# Altium integrated library Xilinx XC1700E.IntLib: 60 symbols (part 1 of 3)
Pins are listed as number, name and electrical type; pins without a type are passive.

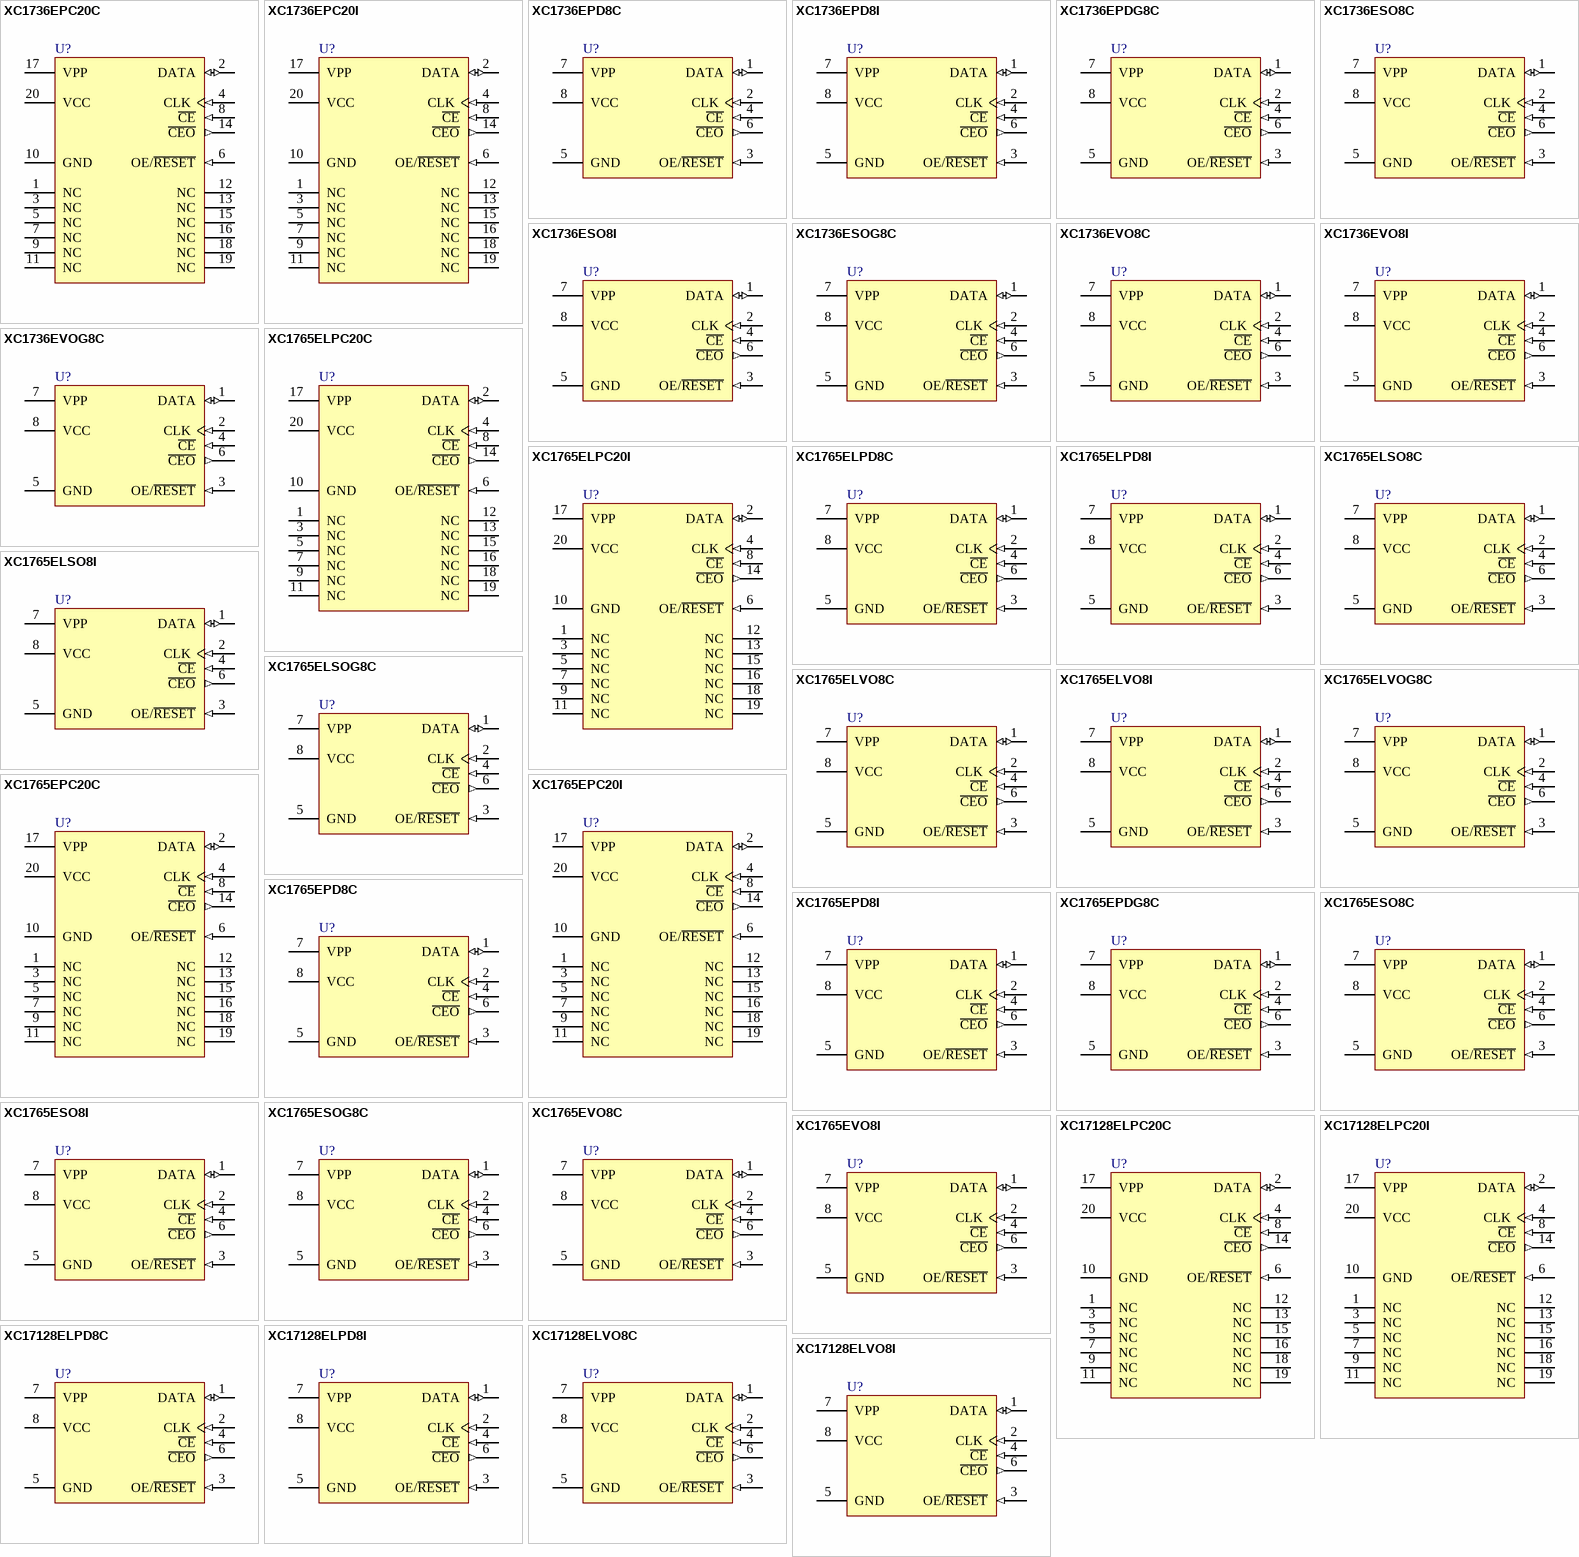
[diagram p0: symbols XC1736EPC20C to XC17128ELVO8I]

## XC1736EPC20C
designator U?
XC1700E Series, One-Time Programmable Configuration 5V PROM, 20-Pin PLCC, 36-Kilobit Density, Commercial Grade; Published: 17-Dec-2003; LatestRevisionDate: 01-Mar-2010; LatestRevisionNote: Added Product Discontinuance Notice Link.; DatasheetVersion: ver3.5, Jun-2008; PackageVersion: ver1.2, Jun-2004; PackageReference: PC20; Publisher: Altium Limited; PackageDescription: 20-Pin Plastic Leaded Chip Carrier (PC20); Supplier 1: Digi-Key; Supplier Part Number 1: XC1736EPC20C-ND; Code_JEDEC: MS-047; Code_IPC: PLCC-20; ComponentLink1Description: XC1700E/EL/L Series Datasheet; ComponentLink1URL: http://www.xilinx.com/support/documentation/data_sheets/ds027.pdf; ComponentLink2Description: Discontinuation Notice; ComponentLink2URL: http://www.xilinx.com/support/documentation/customer_notices/xcn09002.pdf; ComponentLink3Description: PC20 Package Drawing; ComponentLink3URL: http://www.xilinx.com/support/documentation/package_specs/pc20.pdf; ComponentLink4Description: Configuration PROM Documents; ComponentLink4URL: http://www.xilinx.com/support/documentation/configuration_proms.htm; ComponentLink5Description: Xilinx.com Home; ComponentLink5URL: http://www.xilinx.com
footprint PC20_N (Leaded Chip Carrier, 20-Leads, Body 9x9mm, Pitch 1.27mm, IPC Medium Density)
footprint PC20_L (Leaded Chip Carrier, 20-Leads, Body 9x9mm, Pitch 1.27mm, IPC High Density)
footprint PC20_M (Leaded Chip Carrier, 20-Leads, Body 9x9mm, Pitch 1.27mm, IPC Low Density)
pins: 1 NC "No Connection.", 2 DATA (io) "Data Output.", 3 NC "No Connection.", 4 CLK (in) "Clock input for internal address counter.", 5 NC "No Connection.", 6 OE/~{RESET} (in) "Output Enable/Reset.", 7 NC "No Connection.", 8 ~{CE} (in) "Chip Enable Input.", 9 NC "No Connection.", 10 GND (power) "Ground.", 11 NC "No Connection.", 12 NC "No Connection.", 13 NC "No Connection.", 14 ~{CEO} (out) "Chip Enable Output, connects to the CE input of the next PROM in the chain.", 15 NC "No Connection.", 16 NC "No Connection.", 17 VPP (power) "Programming Voltage.  Do not leave Vpp floating!", 18 NC "No Connection.", 19 NC "No Connection.", 20 VCC (power) "Positive Supply."

## XC1736EPC20I
designator U?
XC1700E Series, One-Time Programmable Configuration 5V PROM, 20-Pin PLCC, 36-Kilobit Density, Industrial Grade; Published: 17-Dec-2003; LatestRevisionDate: 01-Mar-2010; LatestRevisionNote: Added Product Discontinuance Notice Link.; DatasheetVersion: ver3.5, Jun-2008; PackageVersion: ver1.2, Jun-2004; PackageReference: PC20; Publisher: Altium Limited; PackageDescription: 20-Pin Plastic Leaded Chip Carrier (PC20); Supplier 1: Digi-Key; Supplier Part Number 1: XC1736EPC20I-ND; Code_JEDEC: MS-047; Code_IPC: PLCC-20; ComponentLink1Description: XC1700E/EL/L Series Datasheet; ComponentLink1URL: http://www.xilinx.com/support/documentation/data_sheets/ds027.pdf; ComponentLink2Description: Discontinuation Notice; ComponentLink2URL: http://www.xilinx.com/support/documentation/customer_notices/xcn09002.pdf; ComponentLink3Description: PC20 Package Drawing; ComponentLink3URL: http://www.xilinx.com/support/documentation/package_specs/pc20.pdf; ComponentLink4Description: Configuration PROM Documents; ComponentLink4URL: http://www.xilinx.com/support/documentation/configuration_proms.htm; ComponentLink5Description: Xilinx.com Home; ComponentLink5URL: http://www.xilinx.com
footprint PC20_N (Leaded Chip Carrier, 20-Leads, Body 9x9mm, Pitch 1.27mm, IPC Medium Density)
footprint PC20_L (Leaded Chip Carrier, 20-Leads, Body 9x9mm, Pitch 1.27mm, IPC High Density)
footprint PC20_M (Leaded Chip Carrier, 20-Leads, Body 9x9mm, Pitch 1.27mm, IPC Low Density)
pins: 1 NC "No Connection.", 2 DATA (io) "Data Output.", 3 NC "No Connection.", 4 CLK (in) "Clock input for internal address counter.", 5 NC "No Connection.", 6 OE/~{RESET} (in) "Output Enable/Reset.", 7 NC "No Connection.", 8 ~{CE} (in) "Chip Enable Input.", 9 NC "No Connection.", 10 GND (power) "Ground.", 11 NC "No Connection.", 12 NC "No Connection.", 13 NC "No Connection.", 14 ~{CEO} (out) "Chip Enable Output, connects to the CE input of the next PROM in the chain.", 15 NC "No Connection.", 16 NC "No Connection.", 17 VPP (power) "Programming Voltage.  Do not leave Vpp floating!", 18 NC "No Connection.", 19 NC "No Connection.", 20 VCC (power) "Positive Supply."

## XC1736EPD8C
designator U?
XC1700E Series, One-Time Programmable Configuration 5V PROM, 8-Pin PDIP, 36-Kilobit Density, Commercial Grade; Published: 17-Dec-2003; LatestRevisionDate: 01-Mar-2010; LatestRevisionNote: Added Product Discontinuance Notice Link.; DatasheetVersion: ver3.5, Jun-2008; PackageVersion: rev1.1, Apr-2001; PackageReference: PD8; Publisher: Altium Limited; PackageDescription: 8-Pin Plastic DIP (PD8); Supplier 1: Digi-Key; Supplier Part Number 1: 122-1187-ND; Supplier 2: Farnell; Supplier Part Number 2: 3848905; Code_JEDEC: MS-001-BA; ComponentLink1Description: XC1700E/EL/L Series Datasheet; ComponentLink1URL: http://www.xilinx.com/support/documentation/data_sheets/ds027.pdf; ComponentLink2Description: Discontinuation Notice; ComponentLink2URL: http://www.xilinx.com/support/documentation/customer_notices/xcn09002.pdf; ComponentLink3Description: PD8 Package Drawing; ComponentLink3URL: http://www.xilinx.com/support/documentation/package_specs/pd08.pdf; ComponentLink4Description: Configuration PROM Documents; ComponentLink4URL: http://www.xilinx.com/support/documentation/configuration_proms.htm; ComponentLink5Description: Xilinx.com Home; ComponentLink5URL: http://www.xilinx.com
footprint PD8 (DIP, 8-Leads, Row Spacing 7.62mm, Pitch 2.54mm, Body 9.36x6.5mm)
pins: 1 DATA (io) "Data Output.", 2 CLK (in) "Clock input for internal address counter.", 3 OE/~{RESET} (in) "Output Enable/Reset.", 4 ~{CE} (in) "Chip Enable Input.", 5 GND (power) "Ground.", 6 ~{CEO} (out) "Chip Enable Output, connects to the CE input of the next PROM in the chain.", 7 VPP (power) "Programming Voltage.  Do not leave Vpp floating!", 8 VCC (power) "Positive Supply."

## XC1736EPD8I
designator U?
XC1700E Series, One-Time Programmable Configuration 5V PROM, 8-Pin PDIP, 36-Kilobit Density, Industrial Grade; Published: 17-Dec-2003; LatestRevisionDate: 01-Mar-2010; LatestRevisionNote: Added Product Discontinuance Notice Link.; DatasheetVersion: ver3.5, Jun-2008; PackageVersion: rev1.1, Apr-2001; PackageReference: PD8; Publisher: Altium Limited; PackageDescription: 8-Pin Plastic DIP (PD8); Supplier 1: Digi-Key; Supplier Part Number 1: XC1736EPD8I-ND; Code_JEDEC: MS-001-BA; ComponentLink1Description: XC1700E/EL/L Series Datasheet; ComponentLink1URL: http://www.xilinx.com/support/documentation/data_sheets/ds027.pdf; ComponentLink2Description: Discontinuation Notice; ComponentLink2URL: http://www.xilinx.com/support/documentation/customer_notices/xcn09002.pdf; ComponentLink3Description: PD8 Package Drawing; ComponentLink3URL: http://www.xilinx.com/support/documentation/package_specs/pd08.pdf; ComponentLink4Description: Configuration PROM Documents; ComponentLink4URL: http://www.xilinx.com/support/documentation/configuration_proms.htm; ComponentLink5Description: Xilinx.com Home; ComponentLink5URL: http://www.xilinx.com
footprint PD8 (DIP, 8-Leads, Row Spacing 7.62mm, Pitch 2.54mm, Body 9.36x6.5mm)
pins: 1 DATA (io) "Data Output.", 2 CLK (in) "Clock input for internal address counter.", 3 OE/~{RESET} (in) "Output Enable/Reset.", 4 ~{CE} (in) "Chip Enable Input.", 5 GND (power) "Ground.", 6 ~{CEO} (out) "Chip Enable Output, connects to the CE input of the next PROM in the chain.", 7 VPP (power) "Programming Voltage.  Do not leave Vpp floating!", 8 VCC (power) "Positive Supply."

## XC1736EPDG8C
designator U?
XC1700E Series, One-Time Programmable Configuration 5V PROM, 8-Pin PDIP, 36-Kilobit Density, Commercial Grade, Pb-Free; Published: 17-Nov-2009; LatestRevisionDate: 01-Mar-2010; LatestRevisionNote: Added Product Discontinuance Notice Link.; DatasheetVersion: ver3.5, Jun-2008; PackageVersion: rev1.1, Apr-2001; PackageReference: PDG8; Publisher: Altium Limited; PackageDescription: 8-Pin Plastic DIP (PDG8), Pb-Free; Supplier 1: Digi-Key; Supplier Part Number 1: 122-1509-ND; Supplier 2: Farnell; Supplier Part Number 2: 1193220; Supplier 3: Newark; Supplier Part Number 3: 98K3366; Code_JEDEC: MS-001-BA; ComponentLink1Description: XC1700E/EL/L Series Datasheet; ComponentLink1URL: http://www.xilinx.com/support/documentation/data_sheets/ds027.pdf; ComponentLink2Description: Discontinuation Notice; ComponentLink2URL: http://www.xilinx.com/support/documentation/customer_notices/xcn09002.pdf; ComponentLink3Description: PDG8 Package Drawing; ComponentLink3URL: http://www.xilinx.com/support/documentation/package_specs/pd08.pdf; ComponentLink4Description: Configuration PROM Documents; ComponentLink4URL: http://www.xilinx.com/support/documentation/configuration_proms.htm; ComponentLink5Description: Xilinx.com Home; ComponentLink5URL: http://www.xilinx.com
footprint PDG8 (DIP, 8-Leads, Row Spacing 7.62mm, Pitch 2.54mm, Body 9.36x6.5mm)
pins: 1 DATA (io) "Data Output.", 2 CLK (in) "Clock input for internal address counter.", 3 OE/~{RESET} (in) "Output Enable/Reset.", 4 ~{CE} (in) "Chip Enable Input.", 5 GND (power) "Ground.", 6 ~{CEO} (out) "Chip Enable Output, connects to the CE input of the next PROM in the chain.", 7 VPP (power) "Programming Voltage.  Do not leave Vpp floating!", 8 VCC (power) "Positive Supply."

## XC1736ESO8C
designator U?
XC1700E Series, One-Time Programmable Configuration 5V PROM, 8-Pin SOIC, 36-Kilobit Density, Commercial Grade; Published: 17-Dec-2003; LatestRevisionDate: 01-Mar-2010; LatestRevisionNote: Added Product Discontinuance Notice Link.; DatasheetVersion: ver3.5, Jun-2008; PackageVersion: ver1.1, Apr-2001; PackageReference: SO8; Publisher: Altium Limited; PackageDescription: 8-Pin Small Outline Package (SO8); Supplier 1: Digi-Key; Supplier Part Number 1: 122-1189-ND; Code_JEDEC: MS-012; ComponentLink1Description: XC1700E/EL/L Series Datasheet; ComponentLink1URL: http://www.xilinx.com/support/documentation/data_sheets/ds027.pdf; ComponentLink2Description: Discontinuation Notice; ComponentLink2URL: http://www.xilinx.com/support/documentation/customer_notices/xcn09002.pdf; ComponentLink3Description: SO8 Package Drawing; ComponentLink3URL: http://www.xilinx.com/support/documentation/package_specs/so8.pdf; ComponentLink4Description: Configuration PROM Documents; ComponentLink4URL: http://www.xilinx.com/support/documentation/configuration_proms.htm; ComponentLink5Description: Xilinx.com Home; ComponentLink5URL: http://www.xilinx.com
footprint SO8_N (SOIC, 8-Leads, Body 4.9x3.9mm, Pitch 1.27mm, IPC Medium Density)
footprint SO8_L (SOIC, 8-Leads, Body 4.9x3.9mm, Pitch 1.27mm, IPC High Density)
footprint SO8_M (SOIC, 8-Leads, Body 4.9x3.9mm, Pitch 1.27mm, IPC Low Density)
pins: 1 DATA (io) "Data Output.", 2 CLK (in) "Clock input for internal address counter.", 3 OE/~{RESET} (in) "Output Enable/Reset.", 4 ~{CE} (in) "Chip Enable Input.", 5 GND (power) "Ground.", 6 ~{CEO} (out) "Chip Enable Output, connects to the CE input of the next PROM in the chain.", 7 VPP (power) "Programming Voltage.  Do not leave Vpp floating!", 8 VCC (power) "Positive Supply."

## XC1736ESO8I
designator U?
XC1700E Series, One-Time Programmable Configuration 5V PROM, 8-Pin SOIC, 36-Kilobit Density, Industrial Grade; Published: 17-Dec-2003; LatestRevisionDate: 01-Mar-2010; LatestRevisionNote: Added Product Discontinuance Notice Link.; DatasheetVersion: ver3.5, Jun-2008; PackageVersion: ver1.1, Apr-2001; PackageReference: SO8; Publisher: Altium Limited; PackageDescription: 8-Pin Small Outline Package (SO8); Supplier 1: Digi-Key; Supplier Part Number 1: XC1736ESO8I-ND; Code_JEDEC: MS-012; ComponentLink1Description: XC1700E/EL/L Series Datasheet; ComponentLink1URL: http://www.xilinx.com/support/documentation/data_sheets/ds027.pdf; ComponentLink2Description: Discontinuation Notice; ComponentLink2URL: http://www.xilinx.com/support/documentation/customer_notices/xcn09002.pdf; ComponentLink3Description: SO8 Package Drawing; ComponentLink3URL: http://www.xilinx.com/support/documentation/package_specs/so8.pdf; ComponentLink4Description: Configuration PROM Documents; ComponentLink4URL: http://www.xilinx.com/support/documentation/configuration_proms.htm; ComponentLink5Description: Xilinx.com Home; ComponentLink5URL: http://www.xilinx.com
footprint SO8_N (SOIC, 8-Leads, Body 4.9x3.9mm, Pitch 1.27mm, IPC Medium Density)
footprint SO8_L (SOIC, 8-Leads, Body 4.9x3.9mm, Pitch 1.27mm, IPC High Density)
footprint SO8_M (SOIC, 8-Leads, Body 4.9x3.9mm, Pitch 1.27mm, IPC Low Density)
pins: 1 DATA (io) "Data Output.", 2 CLK (in) "Clock input for internal address counter.", 3 OE/~{RESET} (in) "Output Enable/Reset.", 4 ~{CE} (in) "Chip Enable Input.", 5 GND (power) "Ground.", 6 ~{CEO} (out) "Chip Enable Output, connects to the CE input of the next PROM in the chain.", 7 VPP (power) "Programming Voltage.  Do not leave Vpp floating!", 8 VCC (power) "Positive Supply."

## XC1736ESOG8C
designator U?
XC1700E Series, One-Time Programmable Configuration 5V PROM, 8-Pin SOIC, 36-Kilobit Density, Commercial Grade, Pb-Free; Published: 17-Nov-2009; LatestRevisionDate: 01-Mar-2010; LatestRevisionNote: Added Product Discontinuance Notice Link.; DatasheetVersion: ver3.5, Jun-2008; PackageVersion: ver1.1, Apr-2001; PackageReference: SOG8; Publisher: Altium Limited; PackageDescription: 8-Pin Small Outline Package (SOG8), Pb-Free; Supplier 1: Digi-Key; Supplier Part Number 1: 122-1510-ND; Code_JEDEC: MS-012; ComponentLink1Description: XC1700E/EL/L Series Datasheet; ComponentLink1URL: http://www.xilinx.com/support/documentation/data_sheets/ds027.pdf; ComponentLink2Description: Discontinuation Notice; ComponentLink2URL: http://www.xilinx.com/support/documentation/customer_notices/xcn09002.pdf; ComponentLink3Description: SOG8 Package Drawing; ComponentLink3URL: http://www.xilinx.com/support/documentation/package_specs/so8.pdf; ComponentLink4Description: Configuration PROM Documents; ComponentLink4URL: http://www.xilinx.com/support/documentation/configuration_proms.htm; ComponentLink5Description: Xilinx.com Home; ComponentLink5URL: http://www.xilinx.com
footprint SOG8_N (SOIC, 8-Leads, Body 4.9x3.9mm, Pitch 1.27mm, IPC Medium Density)
footprint SOG8_L (SOIC, 8-Leads, Body 4.9x3.9mm, Pitch 1.27mm, IPC High Density)
footprint SOG8_M (SOIC, 8-Leads, Body 4.9x3.9mm, Pitch 1.27mm, IPC Low Density)
pins: 1 DATA (io) "Data Output.", 2 CLK (in) "Clock input for internal address counter.", 3 OE/~{RESET} (in) "Output Enable/Reset.", 4 ~{CE} (in) "Chip Enable Input.", 5 GND (power) "Ground.", 6 ~{CEO} (out) "Chip Enable Output, connects to the CE input of the next PROM in the chain.", 7 VPP (power) "Programming Voltage.  Do not leave Vpp floating!", 8 VCC (power) "Positive Supply."

## XC1736EVO8C
designator U?
XC1700E Series, One-Time Programmable Configuration 5V PROM, 8-Pin TSOP, 36-Kilobit Density, Commercial Grade; Published: 17-Dec-2003; LatestRevisionDate: 01-Mar-2010; LatestRevisionNote: Added Product Discontinuance Notice Link.; DatasheetVersion: ver3.5, Jun-2008; PackageVersion: ver1.1, Apr-2001; PackageReference: VO8; Publisher: Altium Limited; PackageDescription: 8-Pin Thin Small Outline Package (VO8); Supplier 1: Digi-Key; Supplier Part Number 1: 122-1192-ND; ComponentLink1Description: XC1700E/EL/L Series Datasheet; ComponentLink1URL: http://www.xilinx.com/support/documentation/data_sheets/ds027.pdf; ComponentLink2Description: Discontinuation Notice; ComponentLink2URL: http://www.xilinx.com/support/documentation/customer_notices/xcn09002.pdf; ComponentLink3Description: VO8 Package Drawing; ComponentLink3URL: http://www.xilinx.com/support/documentation/package_specs/vo8.pdf; ComponentLink4Description: Configuration PROM Documents; ComponentLink4URL: http://www.xilinx.com/support/documentation/configuration_proms.htm; ComponentLink5Description: Xilinx.com Home; ComponentLink5URL: http://www.xilinx.com
footprint VO8_N (SOIC, 8-Leads, Body 4.9x3.9mm, Pitch 1.27mm, IPC Medium Density)
footprint VO8_L (SOIC, 8-Leads, Body 4.9x3.9mm, Pitch 1.27mm, IPC High Density)
footprint VO8_M (SOIC, 8-Leads, Body 4.9x3.9mm, Pitch 1.27mm, IPC Low Density)
pins: 1 DATA (io) "Data Output.", 2 CLK (in) "Clock input for internal address counter.", 3 OE/~{RESET} (in) "Output Enable/Reset.", 4 ~{CE} (in) "Chip Enable Input.", 5 GND (power) "Ground.", 6 ~{CEO} (out) "Chip Enable Output, connects to the CE input of the next PROM in the chain.", 7 VPP (power) "Programming Voltage.  Do not leave Vpp floating!", 8 VCC (power) "Positive Supply."

## XC1736EVO8I
designator U?
XC1700E Series, One-Time Programmable Configuration 5V PROM, 8-Pin TSOP, 36-Kilobit Density, Industrial Grade; Published: 17-Dec-2003; LatestRevisionDate: 01-Mar-2010; LatestRevisionNote: Added Product Discontinuance Notice Link.; DatasheetVersion: ver3.5, Jun-2008; PackageVersion: ver1.1, Apr-2001; PackageReference: VO8; Publisher: Altium Limited; PackageDescription: 8-Pin Thin Small Outline Package (VO8); Supplier 1: Digi-Key; Supplier Part Number 1: XC1736EVO8I-ND; ComponentLink1Description: XC1700E/EL/L Series Datasheet; ComponentLink1URL: http://www.xilinx.com/support/documentation/data_sheets/ds027.pdf; ComponentLink2Description: Discontinuation Notice; ComponentLink2URL: http://www.xilinx.com/support/documentation/customer_notices/xcn09002.pdf; ComponentLink3Description: VO8 Package Drawing; ComponentLink3URL: http://www.xilinx.com/support/documentation/package_specs/vo8.pdf; ComponentLink4Description: Configuration PROM Documents; ComponentLink4URL: http://www.xilinx.com/support/documentation/configuration_proms.htm; ComponentLink5Description: Xilinx.com Home; ComponentLink5URL: http://www.xilinx.com
footprint VO8_N (SOIC, 8-Leads, Body 4.9x3.9mm, Pitch 1.27mm, IPC Medium Density)
footprint VO8_L (SOIC, 8-Leads, Body 4.9x3.9mm, Pitch 1.27mm, IPC High Density)
footprint VO8_M (SOIC, 8-Leads, Body 4.9x3.9mm, Pitch 1.27mm, IPC Low Density)
pins: 1 DATA (io) "Data Output.", 2 CLK (in) "Clock input for internal address counter.", 3 OE/~{RESET} (in) "Output Enable/Reset.", 4 ~{CE} (in) "Chip Enable Input.", 5 GND (power) "Ground.", 6 ~{CEO} (out) "Chip Enable Output, connects to the CE input of the next PROM in the chain.", 7 VPP (power) "Programming Voltage.  Do not leave Vpp floating!", 8 VCC (power) "Positive Supply."

## XC1736EVOG8C
designator U?
XC1700E Series, One-Time Programmable Configuration 5V PROM, 8-Pin TSOP, 36-Kilobit Density, Commercial Grade, Pb-Free; Published: 17-Nov-2009; LatestRevisionDate: 01-Mar-2010; LatestRevisionNote: Added Product Discontinuance Notice Link.; DatasheetVersion: ver3.5, Jun-2008; PackageVersion: ver1.1, Apr-2001; PackageReference: VOG8; Publisher: Altium Limited; PackageDescription: 8-Pin Thin Small Outline Package (VOG8) - Pb-Free; Supplier 1: Digi-Key; Supplier Part Number 1: XC1736EVOG8C-ND; ComponentLink1Description: XC1700E/EL/L Series Datasheet; ComponentLink1URL: http://www.xilinx.com/support/documentation/data_sheets/ds027.pdf; ComponentLink2Description: Discontinuation Notice; ComponentLink2URL: http://www.xilinx.com/support/documentation/customer_notices/xcn09002.pdf; ComponentLink3Description: VOG8 Package Drawing; ComponentLink3URL: http://www.xilinx.com/support/documentation/package_specs/vo8.pdf; ComponentLink4Description: Configuration PROM Documents; ComponentLink4URL: http://www.xilinx.com/support/documentation/configuration_proms.htm; ComponentLink5Description: Xilinx.com Home; ComponentLink5URL: http://www.xilinx.com
footprint VOG8_N (SOIC, 8-Leads, Body 4.9x3.9mm, Pitch 1.27mm, IPC Medium Density)
footprint VOG8_L (SOIC, 8-Leads, Body 4.9x3.9mm, Pitch 1.27mm, IPC High Density)
footprint VOG8_M (SOIC, 8-Leads, Body 4.9x3.9mm, Pitch 1.27mm, IPC Low Density)
pins: 1 DATA (io) "Data Output.", 2 CLK (in) "Clock input for internal address counter.", 3 OE/~{RESET} (in) "Output Enable/Reset.", 4 ~{CE} (in) "Chip Enable Input.", 5 GND (power) "Ground.", 6 ~{CEO} (out) "Chip Enable Output, connects to the CE input of the next PROM in the chain.", 7 VPP (power) "Programming Voltage.  Do not leave Vpp floating!", 8 VCC (power) "Positive Supply."

## XC1765ELPC20C
designator U?
XC1700EL Series, One-Time Programmable Configuration 3.3V PROM, 20-Pin PLCC, 64-Kilobit Density, Commercial Grade; Published: 17-Dec-2003; LatestRevisionDate: 01-Mar-2010; LatestRevisionNote: Added Product Discontinuance Notice Link.; DatasheetVersion: ver3.5, Jun-2008; PackageVersion: ver1.2, Jun-2004; PackageReference: PC20; Publisher: Altium Limited; PackageDescription: 20-Pin Plastic Leaded Chip Carrier (PC20); Supplier 1: Digi-Key; Supplier Part Number 1: XC1765ELPC20C-ND; Code_JEDEC: MS-047; Code_IPC: PLCC-20; ComponentLink1Description: XC1700E/EL/L Series Datasheet; ComponentLink1URL: http://www.xilinx.com/support/documentation/data_sheets/ds027.pdf; ComponentLink2Description: Discontinuation Notice; ComponentLink2URL: http://www.xilinx.com/support/documentation/customer_notices/xcn09002.pdf; ComponentLink3Description: PC20 Package Drawing; ComponentLink3URL: http://www.xilinx.com/support/documentation/package_specs/pc20.pdf; ComponentLink4Description: Configuration PROM Documents; ComponentLink4URL: http://www.xilinx.com/support/documentation/configuration_proms.htm; ComponentLink5Description: Xilinx.com Home; ComponentLink5URL: http://www.xilinx.com
footprint PC20_N (Leaded Chip Carrier, 20-Leads, Body 9x9mm, Pitch 1.27mm, IPC Medium Density)
footprint PC20_L (Leaded Chip Carrier, 20-Leads, Body 9x9mm, Pitch 1.27mm, IPC High Density)
footprint PC20_M (Leaded Chip Carrier, 20-Leads, Body 9x9mm, Pitch 1.27mm, IPC Low Density)
pins: 1 NC "No Connection.", 2 DATA (io) "Data Output.", 3 NC "No Connection.", 4 CLK (in) "Clock input for internal address counter.", 5 NC "No Connection.", 6 OE/~{RESET} (in) "Output Enable/Reset.", 7 NC "No Connection.", 8 ~{CE} (in) "Chip Enable Input.", 9 NC "No Connection.", 10 GND (power) "Ground.", 11 NC "No Connection.", 12 NC "No Connection.", 13 NC "No Connection.", 14 ~{CEO} (out) "Chip Enable Output, connects to the CE input of the next PROM in the chain.", 15 NC "No Connection.", 16 NC "No Connection.", 17 VPP (power) "Programming Voltage.  Do not leave Vpp floating!", 18 NC "No Connection.", 19 NC "No Connection.", 20 VCC (power) "Positive Supply."

## XC1765ELPC20I
designator U?
XC1700EL Series, One-Time Programmable Configuration 3.3V PROM, 20-Pin PLCC, 64-Kilobit Density, Industrial Grade; Published: 17-Dec-2003; LatestRevisionDate: 01-Mar-2010; LatestRevisionNote: Added Product Discontinuance Notice Link.; DatasheetVersion: ver3.5, Jun-2008; PackageVersion: ver1.2, Jun-2004; PackageReference: PC20; Publisher: Altium Limited; PackageDescription: 20-Pin Plastic Leaded Chip Carrier (PC20); Supplier 1: Digi-Key; Supplier Part Number 1: XC1765ELPC20I-ND; Code_JEDEC: MS-047; Code_IPC: PLCC-20; ComponentLink1Description: XC1700E/EL/L Series Datasheet; ComponentLink1URL: http://www.xilinx.com/support/documentation/data_sheets/ds027.pdf; ComponentLink2Description: Discontinuation Notice; ComponentLink2URL: http://www.xilinx.com/support/documentation/customer_notices/xcn09002.pdf; ComponentLink3Description: PC20 Package Drawing; ComponentLink3URL: http://www.xilinx.com/support/documentation/package_specs/pc20.pdf; ComponentLink4Description: Configuration PROM Documents; ComponentLink4URL: http://www.xilinx.com/support/documentation/configuration_proms.htm; ComponentLink5Description: Xilinx.com Home; ComponentLink5URL: http://www.xilinx.com
footprint PC20_N (Leaded Chip Carrier, 20-Leads, Body 9x9mm, Pitch 1.27mm, IPC Medium Density)
footprint PC20_L (Leaded Chip Carrier, 20-Leads, Body 9x9mm, Pitch 1.27mm, IPC High Density)
footprint PC20_M (Leaded Chip Carrier, 20-Leads, Body 9x9mm, Pitch 1.27mm, IPC Low Density)
pins: 1 NC "No Connection.", 2 DATA (io) "Data Output.", 3 NC "No Connection.", 4 CLK (in) "Clock input for internal address counter.", 5 NC "No Connection.", 6 OE/~{RESET} (in) "Output Enable/Reset.", 7 NC "No Connection.", 8 ~{CE} (in) "Chip Enable Input.", 9 NC "No Connection.", 10 GND (power) "Ground.", 11 NC "No Connection.", 12 NC "No Connection.", 13 NC "No Connection.", 14 ~{CEO} (out) "Chip Enable Output, connects to the CE input of the next PROM in the chain.", 15 NC "No Connection.", 16 NC "No Connection.", 17 VPP (power) "Programming Voltage.  Do not leave Vpp floating!", 18 NC "No Connection.", 19 NC "No Connection.", 20 VCC (power) "Positive Supply."

## XC1765ELPD8C
designator U?
XC1700EL Series, One-Time Programmable Configuration 3.3V PROM, 8-Pin PDIP, 64-Kilobit Density, Commercial Grade; Published: 17-Dec-2003; LatestRevisionDate: 01-Mar-2010; LatestRevisionNote: Added Product Discontinuance Notice Link.; DatasheetVersion: ver3.5, Jun-2008; PackageVersion: rev1.1, Apr-2001; PackageReference: PD8; Publisher: Altium Limited; PackageDescription: 8-Pin Plastic DIP (PD8); Supplier 1: Digi-Key; Supplier Part Number 1: XC1765ELPD8C-ND; Code_JEDEC: MS-001-BA; ComponentLink1Description: XC1700E/EL/L Series Datasheet; ComponentLink1URL: http://www.xilinx.com/support/documentation/data_sheets/ds027.pdf; ComponentLink2Description: Discontinuation Notice; ComponentLink2URL: http://www.xilinx.com/support/documentation/customer_notices/xcn09002.pdf; ComponentLink3Description: PD8 Package Drawing; ComponentLink3URL: http://www.xilinx.com/support/documentation/package_specs/pd08.pdf; ComponentLink4Description: Configuration PROM Documents; ComponentLink4URL: http://www.xilinx.com/support/documentation/configuration_proms.htm; ComponentLink5Description: Xilinx.com Home; ComponentLink5URL: http://www.xilinx.com
footprint PD8 (DIP, 8-Leads, Row Spacing 7.62mm, Pitch 2.54mm, Body 9.36x6.5mm)
pins: 1 DATA (io) "Data Output.", 2 CLK (in) "Clock input for internal address counter.", 3 OE/~{RESET} (in) "Output Enable/Reset.", 4 ~{CE} (in) "Chip Enable Input.", 5 GND (power) "Ground.", 6 ~{CEO} (out) "Chip Enable Output, connects to the CE input of the next PROM in the chain.", 7 VPP (power) "Programming Voltage.  Do not leave Vpp floating!", 8 VCC (power) "Positive Supply."

## XC1765ELPD8I
designator U?
XC1700EL Series, One-Time Programmable Configuration 3.3V PROM, 8-Pin PDIP, 64-Kilobit Density, Industrial Grade; Published: 17-Dec-2003; LatestRevisionDate: 01-Mar-2010; LatestRevisionNote: Added Product Discontinuance Notice Link.; DatasheetVersion: ver3.5, Jun-2008; PackageVersion: rev1.1, Apr-2001; PackageReference: PD8; Publisher: Altium Limited; PackageDescription: 8-Pin Plastic DIP (PD8); Supplier 1: Digi-Key; Supplier Part Number 1: XC1765ELPD8I-ND; Code_JEDEC: MS-001-BA; ComponentLink1Description: XC1700E/EL/L Series Datasheet; ComponentLink1URL: http://www.xilinx.com/support/documentation/data_sheets/ds027.pdf; ComponentLink2Description: Discontinuation Notice; ComponentLink2URL: http://www.xilinx.com/support/documentation/customer_notices/xcn09002.pdf; ComponentLink3Description: PD8 Package Drawing; ComponentLink3URL: http://www.xilinx.com/support/documentation/package_specs/pd08.pdf; ComponentLink4Description: Configuration PROM Documents; ComponentLink4URL: http://www.xilinx.com/support/documentation/configuration_proms.htm; ComponentLink5Description: Xilinx.com Home; ComponentLink5URL: http://www.xilinx.com
footprint PD8 (DIP, 8-Leads, Row Spacing 7.62mm, Pitch 2.54mm, Body 9.36x6.5mm)
pins: 1 DATA (io) "Data Output.", 2 CLK (in) "Clock input for internal address counter.", 3 OE/~{RESET} (in) "Output Enable/Reset.", 4 ~{CE} (in) "Chip Enable Input.", 5 GND (power) "Ground.", 6 ~{CEO} (out) "Chip Enable Output, connects to the CE input of the next PROM in the chain.", 7 VPP (power) "Programming Voltage.  Do not leave Vpp floating!", 8 VCC (power) "Positive Supply."

## XC1765ELSO8C
designator U?
XC1700EL Series, One-Time Programmable Configuration 3.3V PROM, 8-Pin SOIC, 64-Kilobit Density, Commercial Grade; Published: 17-Dec-2003; LatestRevisionDate: 01-Mar-2010; LatestRevisionNote: Added Product Discontinuance Notice Link.; DatasheetVersion: ver3.5, Jun-2008; PackageVersion: ver1.1, Apr-2001; PackageReference: SO8; Publisher: Altium Limited; PackageDescription: 8-Pin Small Outline Package (SO8); Supplier 1: Digi-Key; Supplier Part Number 1: XC1765ELSO8C-ND; Code_JEDEC: MS-012; ComponentLink1Description: XC1700E/EL/L Series Datasheet; ComponentLink1URL: http://www.xilinx.com/support/documentation/data_sheets/ds027.pdf; ComponentLink2Description: Discontinuation Notice; ComponentLink2URL: http://www.xilinx.com/support/documentation/customer_notices/xcn09002.pdf; ComponentLink3Description: SO8 Package Drawing; ComponentLink3URL: http://www.xilinx.com/support/documentation/package_specs/so8.pdf; ComponentLink4Description: Configuration PROM Documents; ComponentLink4URL: http://www.xilinx.com/support/documentation/configuration_proms.htm; ComponentLink5Description: Xilinx.com Home; ComponentLink5URL: http://www.xilinx.com
footprint SO8_N (SOIC, 8-Leads, Body 4.9x3.9mm, Pitch 1.27mm, IPC Medium Density)
footprint SO8_L (SOIC, 8-Leads, Body 4.9x3.9mm, Pitch 1.27mm, IPC High Density)
footprint SO8_M (SOIC, 8-Leads, Body 4.9x3.9mm, Pitch 1.27mm, IPC Low Density)
pins: 1 DATA (io) "Data Output.", 2 CLK (in) "Clock input for internal address counter.", 3 OE/~{RESET} (in) "Output Enable/Reset.", 4 ~{CE} (in) "Chip Enable Input.", 5 GND (power) "Ground.", 6 ~{CEO} (out) "Chip Enable Output, connects to the CE input of the next PROM in the chain.", 7 VPP (power) "Programming Voltage.  Do not leave Vpp floating!", 8 VCC (power) "Positive Supply."

## XC1765ELSO8I
designator U?
XC1700EL Series, One-Time Programmable Configuration 3.3V PROM, 8-Pin SOIC, 64-Kilobit Density, Industrial Grade; Published: 17-Dec-2003; LatestRevisionDate: 01-Mar-2010; LatestRevisionNote: Added Product Discontinuance Notice Link.; DatasheetVersion: ver3.5, Jun-2008; PackageVersion: ver1.1, Apr-2001; PackageReference: SO8; Publisher: Altium Limited; PackageDescription: 8-Pin Small Outline Package (SO8); Supplier 1: Digi-Key; Supplier Part Number 1: XC1765ELSO8I-ND; Code_JEDEC: MS-012; ComponentLink1Description: XC1700E/EL/L Series Datasheet; ComponentLink1URL: http://www.xilinx.com/support/documentation/data_sheets/ds027.pdf; ComponentLink2Description: Discontinuation Notice; ComponentLink2URL: http://www.xilinx.com/support/documentation/customer_notices/xcn09002.pdf; ComponentLink3Description: SO8 Package Drawing; ComponentLink3URL: http://www.xilinx.com/support/documentation/package_specs/so8.pdf; ComponentLink4Description: Configuration PROM Documents; ComponentLink4URL: http://www.xilinx.com/support/documentation/configuration_proms.htm; ComponentLink5Description: Xilinx.com Home; ComponentLink5URL: http://www.xilinx.com
footprint SO8_N (SOIC, 8-Leads, Body 4.9x3.9mm, Pitch 1.27mm, IPC Medium Density)
footprint SO8_L (SOIC, 8-Leads, Body 4.9x3.9mm, Pitch 1.27mm, IPC High Density)
footprint SO8_M (SOIC, 8-Leads, Body 4.9x3.9mm, Pitch 1.27mm, IPC Low Density)
pins: 1 DATA (io) "Data Output.", 2 CLK (in) "Clock input for internal address counter.", 3 OE/~{RESET} (in) "Output Enable/Reset.", 4 ~{CE} (in) "Chip Enable Input.", 5 GND (power) "Ground.", 6 ~{CEO} (out) "Chip Enable Output, connects to the CE input of the next PROM in the chain.", 7 VPP (power) "Programming Voltage.  Do not leave Vpp floating!", 8 VCC (power) "Positive Supply."

## XC1765ELSOG8C
designator U?
XC1700EL Series, One-Time Programmable Configuration 3.3V PROM, 8-Pin SOIC, 64-Kilobit Density, Commercial Grade, Pb-Free; Published: 17-Nov-2009; LatestRevisionDate: 01-Mar-2010; LatestRevisionNote: Added Product Discontinuance Notice Link.; DatasheetVersion: ver3.5, Jun-2008; PackageVersion: ver1.1, Apr-2001; PackageReference: SOG8; Publisher: Altium Limited; PackageDescription: 8-Pin Small Outline Package (SOG8), Pb-Free; Supplier 1: Digi-Key; Supplier Part Number 1: XC1765ELSOG8C-ND; Code_JEDEC: MS-012; ComponentLink1Description: XC1700E/EL/L Series Datasheet; ComponentLink1URL: http://www.xilinx.com/support/documentation/data_sheets/ds027.pdf; ComponentLink2Description: Discontinuation Notice; ComponentLink2URL: http://www.xilinx.com/support/documentation/customer_notices/xcn09002.pdf; ComponentLink3Description: SOG8 Package Drawing; ComponentLink3URL: http://www.xilinx.com/support/documentation/package_specs/so8.pdf; ComponentLink4Description: Configuration PROM Documents; ComponentLink4URL: http://www.xilinx.com/support/documentation/configuration_proms.htm; ComponentLink5Description: Xilinx.com Home; ComponentLink5URL: http://www.xilinx.com
footprint SOG8_N (SOIC, 8-Leads, Body 4.9x3.9mm, Pitch 1.27mm, IPC Medium Density)
footprint SOG8_L (SOIC, 8-Leads, Body 4.9x3.9mm, Pitch 1.27mm, IPC High Density)
footprint SOG8_M (SOIC, 8-Leads, Body 4.9x3.9mm, Pitch 1.27mm, IPC Low Density)
pins: 1 DATA (io) "Data Output.", 2 CLK (in) "Clock input for internal address counter.", 3 OE/~{RESET} (in) "Output Enable/Reset.", 4 ~{CE} (in) "Chip Enable Input.", 5 GND (power) "Ground.", 6 ~{CEO} (out) "Chip Enable Output, connects to the CE input of the next PROM in the chain.", 7 VPP (power) "Programming Voltage.  Do not leave Vpp floating!", 8 VCC (power) "Positive Supply."

## XC1765ELVO8C
designator U?
XC1700EL Series, One-Time Programmable Configuration 3.3V PROM, 8-Pin TSOP, 64-Kilobit Density, Commercial Grade; Published: 17-Dec-2003; LatestRevisionDate: 01-Mar-2010; LatestRevisionNote: Added Product Discontinuance Notice Link.; DatasheetVersion: ver3.5, Jun-2008; PackageVersion: ver1.1, Apr-2001; PackageReference: VO8; Publisher: Altium Limited; PackageDescription: 8-Pin Thin Small Outline Package (VO8); Supplier 1: Digi-Key; Supplier Part Number 1: 122-1194-ND; ComponentLink1Description: XC1700E/EL/L Series Datasheet; ComponentLink1URL: http://www.xilinx.com/support/documentation/data_sheets/ds027.pdf; ComponentLink2Description: Discontinuation Notice; ComponentLink2URL: http://www.xilinx.com/support/documentation/customer_notices/xcn09002.pdf; ComponentLink3Description: VO8 Package Drawing; ComponentLink3URL: http://www.xilinx.com/support/documentation/package_specs/vo8.pdf; ComponentLink4Description: Configuration PROM Documents; ComponentLink4URL: http://www.xilinx.com/support/documentation/configuration_proms.htm; ComponentLink5Description: Xilinx.com Home; ComponentLink5URL: http://www.xilinx.com
footprint VO8_N (SOIC, 8-Leads, Body 4.9x3.9mm, Pitch 1.27mm, IPC Medium Density)
footprint VO8_L (SOIC, 8-Leads, Body 4.9x3.9mm, Pitch 1.27mm, IPC High Density)
footprint VO8_M (SOIC, 8-Leads, Body 4.9x3.9mm, Pitch 1.27mm, IPC Low Density)
pins: 1 DATA (io) "Data Output.", 2 CLK (in) "Clock input for internal address counter.", 3 OE/~{RESET} (in) "Output Enable/Reset.", 4 ~{CE} (in) "Chip Enable Input.", 5 GND (power) "Ground.", 6 ~{CEO} (out) "Chip Enable Output, connects to the CE input of the next PROM in the chain.", 7 VPP (power) "Programming Voltage.  Do not leave Vpp floating!", 8 VCC (power) "Positive Supply."

## XC1765ELVO8I
designator U?
XC1700EL Series, One-Time Programmable Configuration 3.3V PROM, 8-Pin TSOP, 64-Kilobit Density, Industrial Grade; Published: 17-Dec-2003; LatestRevisionDate: 01-Mar-2010; LatestRevisionNote: Added Product Discontinuance Notice Link.; DatasheetVersion: ver3.5, Jun-2008; PackageVersion: ver1.1, Apr-2001; PackageReference: VO8; Publisher: Altium Limited; PackageDescription: 8-Pin Thin Small Outline Package (VO8); Supplier 1: Digi-Key; Supplier Part Number 1: XC1765ELVO8I-ND; ComponentLink1Description: XC1700E/EL/L Series Datasheet; ComponentLink1URL: http://www.xilinx.com/support/documentation/data_sheets/ds027.pdf; ComponentLink2Description: Discontinuation Notice; ComponentLink2URL: http://www.xilinx.com/support/documentation/customer_notices/xcn09002.pdf; ComponentLink3Description: VO8 Package Drawing; ComponentLink3URL: http://www.xilinx.com/support/documentation/package_specs/vo8.pdf; ComponentLink4Description: Configuration PROM Documents; ComponentLink4URL: http://www.xilinx.com/support/documentation/configuration_proms.htm; ComponentLink5Description: Xilinx.com Home; ComponentLink5URL: http://www.xilinx.com
footprint VO8_N (SOIC, 8-Leads, Body 4.9x3.9mm, Pitch 1.27mm, IPC Medium Density)
footprint VO8_L (SOIC, 8-Leads, Body 4.9x3.9mm, Pitch 1.27mm, IPC High Density)
footprint VO8_M (SOIC, 8-Leads, Body 4.9x3.9mm, Pitch 1.27mm, IPC Low Density)
pins: 1 DATA (io) "Data Output.", 2 CLK (in) "Clock input for internal address counter.", 3 OE/~{RESET} (in) "Output Enable/Reset.", 4 ~{CE} (in) "Chip Enable Input.", 5 GND (power) "Ground.", 6 ~{CEO} (out) "Chip Enable Output, connects to the CE input of the next PROM in the chain.", 7 VPP (power) "Programming Voltage.  Do not leave Vpp floating!", 8 VCC (power) "Positive Supply."

## XC1765ELVOG8C
designator U?
XC1700EL Series, One-Time Programmable Configuration 3.3V PROM, 8-Pin TSOP, 64-Kilobit Density, Commercial Grade, Pb-Free; Published: 6-Oct-2005; LatestRevisionDate: 01-Mar-2010; LatestRevisionNote: Added Product Discontinuance Notice Link.; DatasheetVersion: ver3.5, Jun-2008; PackageVersion: ver1.1, Apr-2001; PackageReference: VOG8; Publisher: Altium Limited; PackageDescription: 8-Pin Thin Small Outline Package (VOG8) - Pb-Free; Supplier 1: Digi-Key; Supplier Part Number 1: XC1765ELVOG8C-ND; ComponentLink1Description: XC1700E/EL/L Series Datasheet; ComponentLink1URL: http://www.xilinx.com/support/documentation/data_sheets/ds027.pdf; ComponentLink2Description: Discontinuation Notice; ComponentLink2URL: http://www.xilinx.com/support/documentation/customer_notices/xcn09002.pdf; ComponentLink3Description: VOG8 Package Drawing; ComponentLink3URL: http://www.xilinx.com/support/documentation/package_specs/vo8.pdf; ComponentLink4Description: Configuration PROM Documents; ComponentLink4URL: http://www.xilinx.com/support/documentation/configuration_proms.htm; ComponentLink5Description: Xilinx.com Home; ComponentLink5URL: http://www.xilinx.com
footprint VOG8_N (SOIC, 8-Leads, Body 4.9x3.9mm, Pitch 1.27mm, IPC Medium Density)
footprint VOG8_L (SOIC, 8-Leads, Body 4.9x3.9mm, Pitch 1.27mm, IPC High Density)
footprint VOG8_M (SOIC, 8-Leads, Body 4.9x3.9mm, Pitch 1.27mm, IPC Low Density)
pins: 1 DATA (io) "Data Output.", 2 CLK (in) "Clock input for internal address counter.", 3 OE/~{RESET} (in) "Output Enable/Reset.", 4 ~{CE} (in) "Chip Enable Input.", 5 GND (power) "Ground.", 6 ~{CEO} (out) "Chip Enable Output, connects to the CE input of the next PROM in the chain.", 7 VPP (power) "Programming Voltage.  Do not leave Vpp floating!", 8 VCC (power) "Positive Supply."

## XC1765EPC20C
designator U?
XC1700E Series, One-Time Programmable Configuration 5V PROM, 20-Pin PLCC, 64-Kilobit Density, Commercial Grade; Published: 17-Dec-2003; LatestRevisionDate: 01-Mar-2010; LatestRevisionNote: Added Product Discontinuance Notice Link.; DatasheetVersion: ver3.5, Jun-2008; PackageVersion: ver1.2, Jun-2004; PackageReference: PC20; Publisher: Altium Limited; PackageDescription: 20-Pin Plastic Leaded Chip Carrier (PC20); Supplier 1: Digi-Key; Supplier Part Number 1: XC1765EPC20C-ND; Supplier 2: Newark; Supplier Part Number 2: 56P4885; Code_JEDEC: MS-047; Code_IPC: PLCC-20; ComponentLink1Description: XC1700E/EL/L Series Datasheet; ComponentLink1URL: http://www.xilinx.com/support/documentation/data_sheets/ds027.pdf; ComponentLink2Description: Discontinuation Notice; ComponentLink2URL: http://www.xilinx.com/support/documentation/customer_notices/xcn09002.pdf; ComponentLink3Description: PC20 Package Drawing; ComponentLink3URL: http://www.xilinx.com/support/documentation/package_specs/pc20.pdf; ComponentLink4Description: Configuration PROM Documents; ComponentLink4URL: http://www.xilinx.com/support/documentation/configuration_proms.htm; ComponentLink5Description: Xilinx.com Home; ComponentLink5URL: http://www.xilinx.com
footprint PC20_N (Leaded Chip Carrier, 20-Leads, Body 9x9mm, Pitch 1.27mm, IPC Medium Density)
footprint PC20_L (Leaded Chip Carrier, 20-Leads, Body 9x9mm, Pitch 1.27mm, IPC High Density)
footprint PC20_M (Leaded Chip Carrier, 20-Leads, Body 9x9mm, Pitch 1.27mm, IPC Low Density)
pins: 1 NC "No Connection.", 2 DATA (io) "Data Output.", 3 NC "No Connection.", 4 CLK (in) "Clock input for internal address counter.", 5 NC "No Connection.", 6 OE/~{RESET} (in) "Output Enable/Reset.", 7 NC "No Connection.", 8 ~{CE} (in) "Chip Enable Input.", 9 NC "No Connection.", 10 GND (power) "Ground.", 11 NC "No Connection.", 12 NC "No Connection.", 13 NC "No Connection.", 14 ~{CEO} (out) "Chip Enable Output, connects to the CE input of the next PROM in the chain.", 15 NC "No Connection.", 16 NC "No Connection.", 17 VPP (power) "Programming Voltage.  Do not leave Vpp floating!", 18 NC "No Connection.", 19 NC "No Connection.", 20 VCC (power) "Positive Supply."

## XC1765EPC20I
designator U?
XC1700E Series, One-Time Programmable Configuration 5V PROM, 20-Pin PLCC, 64-Kilobit Density, Industrial Grade; Published: 17-Dec-2003; LatestRevisionDate: 01-Mar-2010; LatestRevisionNote: Added Product Discontinuance Notice Link.; DatasheetVersion: ver3.5, Jun-2008; PackageVersion: ver1.2, Jun-2004; PackageReference: PC20; Publisher: Altium Limited; PackageDescription: 20-Pin Plastic Leaded Chip Carrier (PC20); Supplier 1: Digi-Key; Supplier Part Number 1: XC1765EPC20I-ND; Code_JEDEC: MS-047; Code_IPC: PLCC-20; ComponentLink1Description: XC1700E/EL/L Series Datasheet; ComponentLink1URL: http://www.xilinx.com/support/documentation/data_sheets/ds027.pdf; ComponentLink2Description: Discontinuation Notice; ComponentLink2URL: http://www.xilinx.com/support/documentation/customer_notices/xcn09002.pdf; ComponentLink3Description: PC20 Package Drawing; ComponentLink3URL: http://www.xilinx.com/support/documentation/package_specs/pc20.pdf; ComponentLink4Description: Configuration PROM Documents; ComponentLink4URL: http://www.xilinx.com/support/documentation/configuration_proms.htm; ComponentLink5Description: Xilinx.com Home; ComponentLink5URL: http://www.xilinx.com
footprint PC20_N (Leaded Chip Carrier, 20-Leads, Body 9x9mm, Pitch 1.27mm, IPC Medium Density)
footprint PC20_L (Leaded Chip Carrier, 20-Leads, Body 9x9mm, Pitch 1.27mm, IPC High Density)
footprint PC20_M (Leaded Chip Carrier, 20-Leads, Body 9x9mm, Pitch 1.27mm, IPC Low Density)
pins: 1 NC "No Connection.", 2 DATA (io) "Data Output.", 3 NC "No Connection.", 4 CLK (in) "Clock input for internal address counter.", 5 NC "No Connection.", 6 OE/~{RESET} (in) "Output Enable/Reset.", 7 NC "No Connection.", 8 ~{CE} (in) "Chip Enable Input.", 9 NC "No Connection.", 10 GND (power) "Ground.", 11 NC "No Connection.", 12 NC "No Connection.", 13 NC "No Connection.", 14 ~{CEO} (out) "Chip Enable Output, connects to the CE input of the next PROM in the chain.", 15 NC "No Connection.", 16 NC "No Connection.", 17 VPP (power) "Programming Voltage.  Do not leave Vpp floating!", 18 NC "No Connection.", 19 NC "No Connection.", 20 VCC (power) "Positive Supply."

## XC1765EPD8C
designator U?
XC1700E Series, One-Time Programmable Configuration 5V PROM, 8-Pin PDIP, 64-Kilobit Density, Commercial Grade; Published: 17-Dec-2003; LatestRevisionDate: 01-Mar-2010; LatestRevisionNote: Added Product Discontinuance Notice Link.; DatasheetVersion: ver3.5, Jun-2008; PackageVersion: rev1.1, Apr-2001; PackageReference: PD8; Publisher: Altium Limited; PackageDescription: 8-Pin Plastic DIP (PD8); Supplier 1: Digi-Key; Supplier Part Number 1: 122-1188-ND; Code_JEDEC: MS-001-BA; ComponentLink1Description: XC1700E/EL/L Series Datasheet; ComponentLink1URL: http://www.xilinx.com/support/documentation/data_sheets/ds027.pdf; ComponentLink2Description: Discontinuation Notice; ComponentLink2URL: http://www.xilinx.com/support/documentation/customer_notices/xcn09002.pdf; ComponentLink3Description: PD8 Package Drawing; ComponentLink3URL: http://www.xilinx.com/support/documentation/package_specs/pd08.pdf; ComponentLink4Description: Configuration PROM Documents; ComponentLink4URL: http://www.xilinx.com/support/documentation/configuration_proms.htm; ComponentLink5Description: Xilinx.com Home; ComponentLink5URL: http://www.xilinx.com
footprint PD8 (DIP, 8-Leads, Row Spacing 7.62mm, Pitch 2.54mm, Body 9.36x6.5mm)
pins: 1 DATA (io) "Data Output.", 2 CLK (in) "Clock input for internal address counter.", 3 OE/~{RESET} (in) "Output Enable/Reset.", 4 ~{CE} (in) "Chip Enable Input.", 5 GND (power) "Ground.", 6 ~{CEO} (out) "Chip Enable Output, connects to the CE input of the next PROM in the chain.", 7 VPP (power) "Programming Voltage.  Do not leave Vpp floating!", 8 VCC (power) "Positive Supply."

## XC1765EPD8I
designator U?
XC1700E Series, One-Time Programmable Configuration 5V PROM, 8-Pin PDIP, 64-Kilobit Density, Industrial Grade; Published: 17-Dec-2003; LatestRevisionDate: 01-Mar-2010; LatestRevisionNote: Added Product Discontinuance Notice Link.; DatasheetVersion: ver3.5, Jun-2008; PackageVersion: rev1.1, Apr-2001; PackageReference: PD8; Publisher: Altium Limited; PackageDescription: 8-Pin Plastic DIP (PD8); Supplier 1: Digi-Key; Supplier Part Number 1: XC1765EPD8I-ND; Code_JEDEC: MS-001-BA; ComponentLink1Description: XC1700E/EL/L Series Datasheet; ComponentLink1URL: http://www.xilinx.com/support/documentation/data_sheets/ds027.pdf; ComponentLink2Description: Discontinuation Notice; ComponentLink2URL: http://www.xilinx.com/support/documentation/customer_notices/xcn09002.pdf; ComponentLink3Description: PD8 Package Drawing; ComponentLink3URL: http://www.xilinx.com/support/documentation/package_specs/pd08.pdf; ComponentLink4Description: Configuration PROM Documents; ComponentLink4URL: http://www.xilinx.com/support/documentation/configuration_proms.htm; ComponentLink5Description: Xilinx.com Home; ComponentLink5URL: http://www.xilinx.com
footprint PD8 (DIP, 8-Leads, Row Spacing 7.62mm, Pitch 2.54mm, Body 9.36x6.5mm)
pins: 1 DATA (io) "Data Output.", 2 CLK (in) "Clock input for internal address counter.", 3 OE/~{RESET} (in) "Output Enable/Reset.", 4 ~{CE} (in) "Chip Enable Input.", 5 GND (power) "Ground.", 6 ~{CEO} (out) "Chip Enable Output, connects to the CE input of the next PROM in the chain.", 7 VPP (power) "Programming Voltage.  Do not leave Vpp floating!", 8 VCC (power) "Positive Supply."

## XC1765EPDG8C
designator U?
XC1700E Series, One-Time Programmable Configuration 5V PROM, 8-Pin PDIP, 64-Kilobit Density, Commercial Grade, Pb-Free; Published: 17-Nov-2009; LatestRevisionDate: 01-Mar-2010; LatestRevisionNote: Added Product Discontinuance Notice Link.; DatasheetVersion: ver3.5, Jun-2008; PackageVersion: rev1.1, Apr-2001; PackageReference: PDG8; Publisher: Altium Limited; PackageDescription: 8-Pin Plastic DIP (PDG8), Pb-Free; Supplier 1: Digi-Key; Supplier Part Number 1: 122-1577-5-ND; Supplier 2: Farnell; Supplier Part Number 2: 1193221; Supplier 3: Newark; Supplier Part Number 3: 98K3367; Code_JEDEC: MS-001-BA; ComponentLink1Description: XC1700E/EL/L Series Datasheet; ComponentLink1URL: http://www.xilinx.com/support/documentation/data_sheets/ds027.pdf; ComponentLink2Description: Discontinuation Notice; ComponentLink2URL: http://www.xilinx.com/support/documentation/customer_notices/xcn09002.pdf; ComponentLink3Description: PDG8 Package Drawing; ComponentLink3URL: http://www.xilinx.com/support/documentation/package_specs/pd08.pdf; ComponentLink4Description: Configuration PROM Documents; ComponentLink4URL: http://www.xilinx.com/support/documentation/configuration_proms.htm; ComponentLink5Description: Xilinx.com Home; ComponentLink5URL: http://www.xilinx.com
footprint PDG8 (DIP, 8-Leads, Row Spacing 7.62mm, Pitch 2.54mm, Body 9.36x6.5mm)
pins: 1 DATA (io) "Data Output.", 2 CLK (in) "Clock input for internal address counter.", 3 OE/~{RESET} (in) "Output Enable/Reset.", 4 ~{CE} (in) "Chip Enable Input.", 5 GND (power) "Ground.", 6 ~{CEO} (out) "Chip Enable Output, connects to the CE input of the next PROM in the chain.", 7 VPP (power) "Programming Voltage.  Do not leave Vpp floating!", 8 VCC (power) "Positive Supply."

## XC1765ESO8C
designator U?
XC1700E Series, One-Time Programmable Configuration 5V PROM, 8-Pin SOIC, 64-Kilobit Density, Commercial Grade; Published: 17-Dec-2003; LatestRevisionDate: 01-Mar-2010; LatestRevisionNote: Added Product Discontinuance Notice Link.; DatasheetVersion: ver3.5, Jun-2008; PackageVersion: ver1.1, Apr-2001; PackageReference: SO8; Publisher: Altium Limited; PackageDescription: 8-Pin Small Outline Package (SO8); Supplier 1: Digi-Key; Supplier Part Number 1: 122-1190-ND; Code_JEDEC: MS-012; ComponentLink1Description: XC1700E/EL/L Series Datasheet; ComponentLink1URL: http://www.xilinx.com/support/documentation/data_sheets/ds027.pdf; ComponentLink2Description: Discontinuation Notice; ComponentLink2URL: http://www.xilinx.com/support/documentation/customer_notices/xcn09002.pdf; ComponentLink3Description: SO8 Package Drawing; ComponentLink3URL: http://www.xilinx.com/support/documentation/package_specs/so8.pdf; ComponentLink4Description: Configuration PROM Documents; ComponentLink4URL: http://www.xilinx.com/support/documentation/configuration_proms.htm; ComponentLink5Description: Xilinx.com Home; ComponentLink5URL: http://www.xilinx.com
footprint SO8_N (SOIC, 8-Leads, Body 4.9x3.9mm, Pitch 1.27mm, IPC Medium Density)
footprint SO8_L (SOIC, 8-Leads, Body 4.9x3.9mm, Pitch 1.27mm, IPC High Density)
footprint SO8_M (SOIC, 8-Leads, Body 4.9x3.9mm, Pitch 1.27mm, IPC Low Density)
pins: 1 DATA (io) "Data Output.", 2 CLK (in) "Clock input for internal address counter.", 3 OE/~{RESET} (in) "Output Enable/Reset.", 4 ~{CE} (in) "Chip Enable Input.", 5 GND (power) "Ground.", 6 ~{CEO} (out) "Chip Enable Output, connects to the CE input of the next PROM in the chain.", 7 VPP (power) "Programming Voltage.  Do not leave Vpp floating!", 8 VCC (power) "Positive Supply."